# Altium schematic symbol library TD521D485.SchLib: 1 symbol
Pins are listed as number, name and electrical type; pins without a type are passive.

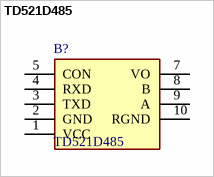
[diagram p0: symbol TD521D485]

## TD521D485
designator B?
Interface Circuit; Manufacturer_Name: Mornsun Power; Geometry.Height: 8.1mm; Manufacturer_Part_Number: TD521D485; Mouser Part Number: *; Mouser Price/Stock: *; Arrow Part Number: *; Arrow Price/Stock: *; Datasheet Link: *
footprint TD521D485
pins: 1 VCC, 2 GND, 3 TXD, 4 RXD, 5 CON, 7 VO, 8 B, 9 A, 10 RGND